# Altium footprint library PCB_Library_1.PcbLib: 41 footprints (part 3 of 3)
Each footprint in its own frame and in the unit in brackets; x right, y up, seen from the top. Pads: shape width x height; smd on the part's side, far side on the other; paste and mask are expansions set on the pad; w line width, h text height; cw(c..) or ccw(c..) is an arc to the next point about the centre after c.
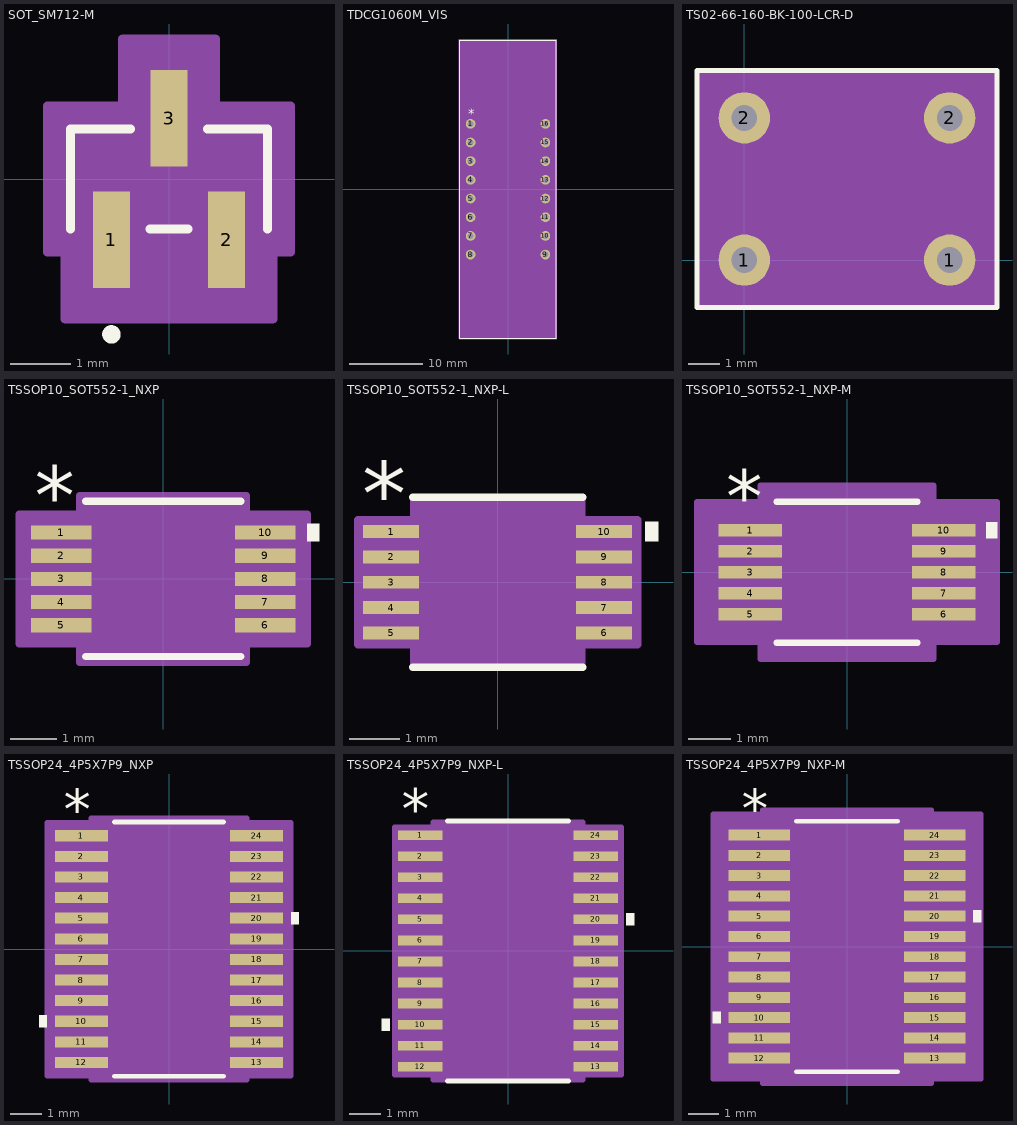
[diagram p2: the footprints below, top view; thin cyan lines are the x and y axes]

## SOT_SM712-M [mil]
pads (3):
  rect 24x63 smd paste+0 mask+0: 1(-37.4,-39.5) 2(37.4,-39.5) 3(0,39.5)
Top Overlay:
  circle w6: c-37.4,-101 r3
  lines w6: -64,-32.5 -64,32.5 -25.1,32.5 ; -12.3,-32.5 12.3,-32.5 ; 25.1,32.5 64,32.5 64,-32.5
Mechanical 13:
  circle w0: c-37.4,-17.5 r3
  lines w1: -59,-27.5 59,-27.5 59,27.5 -59,27.5 -59,-27.5 ; -47.4,-49 -47.4,-27.5 -27.4,-27.5 -27.4,-49 -47.4,-49 ; -10,27.5 10,27.5 10,49 -10,49 -10,27.5 ; 27.4,-49 27.4,-27.5 47.4,-27.5 47.4,-49 27.4,-49
Mechanical 15:
  region: -79,-47.5 -79,47.5 -30,47.5 -30,91 30,91 30,47.5 79,47.5 79,-47.5 67.4,-47.5 67.4,-91 -67.4,-91 -67.4,-47.5
  lines w6: -79,-47.5 -79,47.5 -30,47.5 -30,91 30,91 30,47.5 79,47.5 79,-47.5 67.4,-47.5 67.4,-91 -67.4,-91 -67.4,-47.5 -79,-47.5
3D body "SOT_SM712.step": height 46.1, standoff 0, extent -59.02,-49.02 59.02,49.02

## TDCG1060M_VIS [mil]
pads (16):
  round 52 hole 32 paste-99999 mask+0: 1(-200,350) 2(-200,250) 3(-200,150) 4(-200,50) 5(-200,-50) 6(-200,-150) 7(-200,-250) 8(-200,-350) 9(200,-350) 10(200,-250) 11(200,-150) 12(200,-50) 13(200,50) 14(200,150) 15(200,250) 16(200,350)
Top Overlay:
  lines w6: -257,-796.5 257,-796.5 257,796.5 -257,796.5 -257,-796.5
  text "*" at -212.5,380 h50
Mechanical 13:
  lines w0: -12,791.5 ccw(c0,791.5) 12,791.5
  lines w1: -252,-791.5 252,-791.5 252,791.5 -252,791.5 -252,-791.5 ; -252,-365 -252,-335 -215,-335 -215,-365 -252,-365 ; -252,-265 -252,-235 -215,-235 -215,-265 -252,-265 ; -252,-165 -252,-135 -215,-135 -215,-165 -252,-165 ; -252,-65 -252,-35 -215,-35 -215,-65 -252,-65 ; -252,35 -252,65 -215,65 -215,35 -252,35 ; -252,135 -252,165 -215,165 -215,135 -252,135 ; -252,235 -252,265 -215,265 -215,235 -252,235 ; -252,335 -252,365 -215,365 -215,335 -252,335 ; 215,-365 252,-365 252,-335 215,-335 215,-365 ; 215,-265 252,-265 252,-235 215,-235 215,-265 ; 215,-165 252,-165 252,-135 215,-135 215,-165 ; 215,-65 252,-65 252,-35 215,-35 215,-65 ; 215,35 252,35 252,65 215,65 215,35 ; 215,135 252,135 252,165 215,165 215,135 ; 215,235 252,235 252,265 215,265 215,235 ; 215,335 252,335 252,365 215,365 215,335
  text "*" at -254.5,325 h50
Mechanical 15:
  region: 262,-385 262,385 262,801.5 -262,801.5 -262,385 -262,-385 -262,-801.5 262,-801.5
  lines w6: -262,-801.5 -262,-385 -262,385 -262,801.5 262,801.5 262,385 262,-385 262,-801.5 -262,-801.5
3D body "TDCG1060M_VIS.step": height 281.1, standoff -100, extent -205,-791.5 209.61,791.5

## TS02-66-160-BK-100-LCR-D [mil] "Push button"
pads (4):
  round 64 hole 32 mask+0: 1(0,0) 1(255.91,0) 2(0,177.17) 2(255.91,177.17)
Top Overlay:
  lines w6: -59.06,-59.06 314.96,-59.06 314.96,236.22 -59.06,236.22 -59.06,-59.06
Mechanical 15:
  rectangle: -59.06,-59.06 314.96,236.22

## TSSOP10_SOT552-1_NXP [mil]
pads (10):
  rect 51.5x12 smd paste+0 mask+0: 1(-86.75,39.37) 2(-86.75,19.68) 3(-86.75,0) 4(-86.75,-19.68) 5(-86.75,-39.37) 6(86.75,-39.37) 7(86.75,-19.68) 8(86.75,0) 9(86.75,19.68) 10(86.75,39.37)
Top Overlay:
  region: 122.5,46.87 132.5,46.87 132.5,31.87 122.5,31.87
  lines w6: -66,-66 66,-66 ; -66,66 66,66
  text "*" at -109.25,46.37 h50
Mechanical 13:
  lines w0: -12,61 ccw(c0,61) 12,61
  lines w1: -98.5,-45.37 -98.5,-33.37 -61,-33.37 -61,-45.37 -98.5,-45.37 ; -98.5,-25.68 -98.5,-13.69 -61,-13.69 -61,-25.68 -98.5,-25.68 ; -98.5,-6 -98.5,6 -61,6 -61,-6 -98.5,-6 ; -98.5,13.69 -98.5,25.68 -61,25.68 -61,13.69 -98.5,13.69 ; -98.5,33.37 -98.5,45.37 -61,45.37 -61,33.37 -98.5,33.37 ; -61,-61 61,-61 61,61 -61,61 -61,-61 ; 61,-45.37 61,-33.37 98.5,-33.37 98.5,-45.37 61,-45.37 ; 61,-25.68 61,-13.69 98.5,-13.69 98.5,-25.68 61,-25.68 ; 61,-6 61,6 98.5,6 98.5,-6 61,-6 ; 61,13.69 61,25.68 98.5,25.68 98.5,13.69 61,13.69 ; 61,33.37 61,45.37 98.5,45.37 98.5,33.37 61,33.37
  text "*" at -58.5,8 h50
Mechanical 15:
  region: -71,-55.37 -122.5,-55.37 -122.5,55.37 -71,55.37 -71,71 71,71 71,55.37 122.5,55.37 122.5,-55.37 71,-55.37 71,-71 -71,-71
  lines w6: -122.5,-55.37 -122.5,55.37 -71,55.37 -71,71 71,71 71,55.37 122.5,55.37 122.5,-55.37 71,-55.37 71,-71 -71,-71 -71,-55.37 -122.5,-55.37
3D body "TSSOP10_SOT552-1_NXP.step": height 43.11, standoff 0, extent -98.5,-60.98 98.5,60.98

## TSSOP10_SOT552-1_NXP-L [mil]
pads (10):
  rect 43.5x10 smd paste+0 mask+0: 1(-82.75,39.37) 2(-82.75,19.68) 3(-82.75,0) 4(-82.75,-19.68) 5(-82.75,-39.37) 6(82.75,-39.37) 7(82.75,-19.68) 8(82.75,0) 9(82.75,19.68) 10(82.75,39.37)
Top Overlay:
  region: 114.5,46.87 124.5,46.87 124.5,31.87 114.5,31.87
  lines w6: -66,-66 66,-66 ; -66,66 66,66
  text "*" at -105.25,44.37 h50
Mechanical 13:
  lines w0: -12,61 ccw(c0,61) 12,61
  lines w1: -98.5,-45.37 -61,-45.37 -61,-33.37 -98.5,-33.37 -98.5,-45.37 ; -98.5,-25.68 -61,-25.68 -61,-13.69 -98.5,-13.69 -98.5,-25.68 ; -98.5,-6 -61,-6 -61,6 -98.5,6 -98.5,-6 ; -98.5,13.69 -61,13.69 -61,25.68 -98.5,25.68 -98.5,13.69 ; -98.5,33.37 -61,33.37 -61,45.37 -98.5,45.37 -98.5,33.37 ; -61,-61 -61,61 61,61 61,-61 -61,-61 ; 61,-45.37 98.5,-45.37 98.5,-33.37 61,-33.37 61,-45.37 ; 61,-25.68 98.5,-25.68 98.5,-13.69 61,-13.69 61,-25.68 ; 61,-6 98.5,-6 98.5,6 61,6 61,-6 ; 61,13.69 98.5,13.69 98.5,25.68 61,25.68 61,13.69 ; 61,33.37 98.5,33.37 98.5,45.37 61,45.37 61,33.37
  text "*" at -58.5,8 h50
Mechanical 15:
  region: -65,-48.37 -108.5,-48.37 -108.5,48.37 -65,48.37 -65,65 65,65 65,48.37 108.5,48.37 108.5,-48.37 65,-48.37 65,-65 -65,-65
  lines w6: -108.5,-48.37 -65,-48.37 -65,-65 65,-65 65,-48.37 108.5,-48.37 108.5,48.37 65,48.37 65,65 -65,65 -65,48.37 -108.5,48.37 -108.5,-48.37
3D body "TSSOP10_SOT552-1_NXP.step": height 43.11, standoff 0, extent -98.5,-60.98 98.5,60.98

## TSSOP10_SOT552-1_NXP-M [mil]
pads (10):
  rect 59.5x12 smd paste+0 mask+0: 1(-90.75,39.37) 2(-90.75,19.68) 3(-90.75,0) 4(-90.75,-19.68) 5(-90.75,-39.37) 6(90.75,-39.37) 7(90.75,-19.68) 8(90.75,0) 9(90.75,19.68) 10(90.75,39.37)
Top Overlay:
  region: 130.5,46.87 140.5,46.87 140.5,31.87 130.5,31.87
  lines w6: -66,-66 66,-66 ; -66,66 66,66
  text "*" at -113.25,46.37 h50
Mechanical 13:
  lines w0: -12,61 ccw(c0,61) 12,61
  lines w1: -98.5,-45.37 -98.5,-33.37 -61,-33.37 -61,-45.37 -98.5,-45.37 ; -98.5,-25.68 -98.5,-13.69 -61,-13.69 -61,-25.68 -98.5,-25.68 ; -98.5,-6 -98.5,6 -61,6 -61,-6 -98.5,-6 ; -98.5,13.69 -98.5,25.68 -61,25.68 -61,13.69 -98.5,13.69 ; -98.5,33.37 -98.5,45.37 -61,45.37 -61,33.37 -98.5,33.37 ; -61,-61 61,-61 61,61 -61,61 -61,-61 ; 61,-45.37 61,-33.37 98.5,-33.37 98.5,-45.37 61,-45.37 ; 61,-25.68 61,-13.69 98.5,-13.69 98.5,-25.68 61,-25.68 ; 61,-6 61,6 98.5,6 98.5,-6 61,-6 ; 61,13.69 61,25.68 98.5,25.68 98.5,13.69 61,13.69 ; 61,33.37 61,45.37 98.5,45.37 98.5,33.37 61,33.37
  text "*" at -58.5,8 h50
Mechanical 15:
  region: -81,-65.37 -140.5,-65.37 -140.5,65.37 -81,65.37 -81,81 81,81 81,65.37 140.5,65.37 140.5,-65.37 81,-65.37 81,-81 -81,-81
  lines w6: -140.5,-65.37 -140.5,65.37 -81,65.37 -81,81 81,81 81,65.37 140.5,65.37 140.5,-65.37 81,-65.37 81,-81 -81,-81 -81,-65.37 -140.5,-65.37
3D body "TSSOP10_SOT552-1_NXP.step": height 43.11, standoff 0, extent -98.5,-60.98 98.5,60.98

## TSSOP24_4P5X7P9_NXP [mil]
pads (24):
  rect 67x14 smd paste+0 mask+0: 1(-110.5,143) 2(-110.5,117) 3(-110.5,91) 4(-110.5,65) 5(-110.5,39) 6(-110.5,13) 7(-110.5,-13) 8(-110.5,-39) 9(-110.5,-65) 10(-110.5,-91) 11(-110.5,-117) 12(-110.5,-143) 13(110.5,-143) 14(110.5,-117) 15(110.5,-91) 16(110.5,-65) 17(110.5,-39) 18(110.5,-13) 19(110.5,13) 20(110.5,39) 21(110.5,65) 22(110.5,91) 23(110.5,117) 24(110.5,143)
Top Overlay:
  region: 154,46.5 164,46.5 164,31.5 154,31.5
  region: -154,-83.5 -164,-83.5 -164,-98.5 -154,-98.5
  lines w6: -69.17,-160.5 69.17,-160.5 ; -69.17,160.5 69.17,160.5
  text "*" at -133,152 h50
Mechanical 13:
  lines w0: -12,155.5 ccw(c0,155.5) 12,155.5
  lines w1: -130,-149 -88.5,-149 -88.5,-137 -130,-137 -130,-149 ; -130,-123 -88.5,-123 -88.5,-111 -130,-111 -130,-123 ; -130,-97 -88.5,-97 -88.5,-85 -130,-85 -130,-97 ; -130,-71 -88.5,-71 -88.5,-59 -130,-59 -130,-71 ; -130,-45 -88.5,-45 -88.5,-33 -130,-33 -130,-45 ; -130,-19 -88.5,-19 -88.5,-7 -130,-7 -130,-19 ; -130,7 -88.5,7 -88.5,19 -130,19 -130,7 ; -130,33 -88.5,33 -88.5,45 -130,45 -130,33 ; -130,59 -88.5,59 -88.5,71 -130,71 -130,59 ; -130,85 -88.5,85 -88.5,97 -130,97 -130,85 ; -130,111 -88.5,111 -88.5,123 -130,123 -130,111 ; -130,137 -88.5,137 -88.5,149 -130,149 -130,137 ; -88.5,-155.5 -88.5,155.5 88.5,155.5 88.5,-155.5 -88.5,-155.5 ; 88.5,-149 130,-149 130,-137 88.5,-137 88.5,-149 ; 88.5,-123 130,-123 130,-111 88.5,-111 88.5,-123 ; 88.5,-97 130,-97 130,-85 88.5,-85 88.5,-97 ; 88.5,-71 130,-71 130,-59 88.5,-59 88.5,-71 ; 88.5,-45 130,-45 130,-33 88.5,-33 88.5,-45 ; 88.5,-19 130,-19 130,-7 88.5,-7 88.5,-19 ; 88.5,7 130,7 130,19 88.5,19 88.5,7 ; 88.5,33 130,33 130,45 88.5,45 88.5,33 ; 88.5,59 130,59 130,71 88.5,71 88.5,59 ; 88.5,85 130,85 130,97 88.5,97 88.5,85 ; 88.5,111 130,111 130,123 88.5,123 88.5,111 ; 88.5,137 130,137 130,149 88.5,149 88.5,137
  text "*" at -86,102.5 h50
Mechanical 15:
  region: -98.5,-160 -154,-160 -154,160 -98.5,160 -98.5,165.5 98.5,165.5 98.5,160 154,160 154,-160 98.5,-160 98.5,-165.5 -98.5,-165.5
  lines w6: -154,-160 -98.5,-160 -98.5,-165.5 98.5,-165.5 98.5,-160 154,-160 154,160 98.5,160 98.5,165.5 -98.5,165.5 -98.5,160 -154,160 -154,-160
3D body "TSSOP24_4P5X7P9_NXP.step": height 43.11, standoff 0, extent -130,-155.51 130,155.51

## TSSOP24_4P5X7P9_NXP-L [mil]
pads (24):
  rect 55x12 smd paste+0 mask+0: 1(-108.5,143) 2(-108.5,117) 3(-108.5,91) 4(-108.5,65) 5(-108.5,39) 6(-108.5,13) 7(-108.5,-13) 8(-108.5,-39) 9(-108.5,-65) 10(-108.5,-91) 11(-108.5,-117) 12(-108.5,-143) 13(108.5,-143) 14(108.5,-117) 15(108.5,-91) 16(108.5,-65) 17(108.5,-39) 18(108.5,-13) 19(108.5,13) 20(108.5,39) 21(108.5,65) 22(108.5,91) 23(108.5,117) 24(108.5,143)
Top Overlay:
  region: 146,46.5 156,46.5 156,31.5 146,31.5
  region: -146,-83.5 -156,-83.5 -156,-98.5 -146,-98.5
  lines w6: -74.73,-160.5 74.73,-160.5 ; -74.73,160.5 74.73,160.5
  text "*" at -131,150 h50
Mechanical 13:
  lines w0: -12,155.5 ccw(c0,155.5) 12,155.5
  lines w1: -130,-149 -88.5,-149 -88.5,-137 -130,-137 -130,-149 ; -130,-123 -88.5,-123 -88.5,-111 -130,-111 -130,-123 ; -130,-97 -88.5,-97 -88.5,-85 -130,-85 -130,-97 ; -130,-71 -88.5,-71 -88.5,-59 -130,-59 -130,-71 ; -130,-45 -88.5,-45 -88.5,-33 -130,-33 -130,-45 ; -130,-19 -88.5,-19 -88.5,-7 -130,-7 -130,-19 ; -130,7 -88.5,7 -88.5,19 -130,19 -130,7 ; -130,33 -88.5,33 -88.5,45 -130,45 -130,33 ; -130,59 -88.5,59 -88.5,71 -130,71 -130,59 ; -130,85 -88.5,85 -88.5,97 -130,97 -130,85 ; -130,111 -88.5,111 -88.5,123 -130,123 -130,111 ; -130,137 -88.5,137 -88.5,149 -130,149 -130,137 ; -88.5,-155.5 -88.5,155.5 88.5,155.5 88.5,-155.5 -88.5,-155.5 ; 88.5,-149 130,-149 130,-137 88.5,-137 88.5,-149 ; 88.5,-123 130,-123 130,-111 88.5,-111 88.5,-123 ; 88.5,-97 130,-97 130,-85 88.5,-85 88.5,-97 ; 88.5,-71 130,-71 130,-59 88.5,-59 88.5,-71 ; 88.5,-45 130,-45 130,-33 88.5,-33 88.5,-45 ; 88.5,-19 130,-19 130,-7 88.5,-7 88.5,-19 ; 88.5,7 130,7 130,19 88.5,19 88.5,7 ; 88.5,33 130,33 130,45 88.5,45 88.5,33 ; 88.5,59 130,59 130,71 88.5,71 88.5,59 ; 88.5,85 130,85 130,97 88.5,97 88.5,85 ; 88.5,111 130,111 130,123 88.5,123 88.5,111 ; 88.5,137 130,137 130,149 88.5,149 88.5,137
  text "*" at -86,102.5 h50
Mechanical 15:
  region: -92.5,-153 -140,-153 -140,153 -92.5,153 -92.5,159.5 92.5,159.5 92.5,153 140,153 140,-153 92.5,-153 92.5,-159.5 -92.5,-159.5
  lines w6: -140,-153 -92.5,-153 -92.5,-159.5 92.5,-159.5 92.5,-153 140,-153 140,153 92.5,153 92.5,159.5 -92.5,159.5 -92.5,153 -140,153 -140,-153
3D body "TSSOP24_4P5X7P9_NXP.step": height 43.11, standoff 0, extent -130,-155.51 130,155.51

## TSSOP24_4P5X7P9_NXP-M [mil]
pads (24):
  rect 79x14 smd paste+0 mask+0: 1(-112.5,143) 2(-112.5,117) 3(-112.5,91) 4(-112.5,65) 5(-112.5,39) 6(-112.5,13) 7(-112.5,-13) 8(-112.5,-39) 9(-112.5,-65) 10(-112.5,-91) 11(-112.5,-117) 12(-112.5,-143) 13(112.5,-143) 14(112.5,-117) 15(112.5,-91) 16(112.5,-65) 17(112.5,-39) 18(112.5,-13) 19(112.5,13) 20(112.5,39) 21(112.5,65) 22(112.5,91) 23(112.5,117) 24(112.5,143)
Top Overlay:
  region: 162,46.5 172,46.5 172,31.5 162,31.5
  region: -162,-83.5 -172,-83.5 -172,-98.5 -162,-98.5
  lines w6: -65.17,-160.5 65.17,-160.5 ; -65.17,160.5 65.17,160.5
  text "*" at -135,152 h50
Mechanical 13:
  lines w0: -12,155.5 ccw(c0,155.5) 12,155.5
  lines w1: -130,-149 -88.5,-149 -88.5,-137 -130,-137 -130,-149 ; -130,-123 -88.5,-123 -88.5,-111 -130,-111 -130,-123 ; -130,-97 -88.5,-97 -88.5,-85 -130,-85 -130,-97 ; -130,-71 -88.5,-71 -88.5,-59 -130,-59 -130,-71 ; -130,-45 -88.5,-45 -88.5,-33 -130,-33 -130,-45 ; -130,-19 -88.5,-19 -88.5,-7 -130,-7 -130,-19 ; -130,7 -88.5,7 -88.5,19 -130,19 -130,7 ; -130,33 -88.5,33 -88.5,45 -130,45 -130,33 ; -130,59 -88.5,59 -88.5,71 -130,71 -130,59 ; -130,85 -88.5,85 -88.5,97 -130,97 -130,85 ; -130,111 -88.5,111 -88.5,123 -130,123 -130,111 ; -130,137 -88.5,137 -88.5,149 -130,149 -130,137 ; -88.5,-155.5 -88.5,155.5 88.5,155.5 88.5,-155.5 -88.5,-155.5 ; 88.5,-149 130,-149 130,-137 88.5,-137 88.5,-149 ; 88.5,-123 130,-123 130,-111 88.5,-111 88.5,-123 ; 88.5,-97 130,-97 130,-85 88.5,-85 88.5,-97 ; 88.5,-71 130,-71 130,-59 88.5,-59 88.5,-71 ; 88.5,-45 130,-45 130,-33 88.5,-33 88.5,-45 ; 88.5,-19 130,-19 130,-7 88.5,-7 88.5,-19 ; 88.5,7 130,7 130,19 88.5,19 88.5,7 ; 88.5,33 130,33 130,45 88.5,45 88.5,33 ; 88.5,59 130,59 130,71 88.5,71 88.5,59 ; 88.5,85 130,85 130,97 88.5,97 88.5,85 ; 88.5,111 130,111 130,123 88.5,123 88.5,111 ; 88.5,137 130,137 130,149 88.5,149 88.5,137
  text "*" at -86,102.5 h50
Mechanical 15:
  region: -108.5,-170 -172,-170 -172,170 -108.5,170 -108.5,175.5 108.5,175.5 108.5,170 172,170 172,-170 108.5,-170 108.5,-175.5 -108.5,-175.5
  lines w6: -172,-170 -108.5,-170 -108.5,-175.5 108.5,-175.5 108.5,-170 172,-170 172,170 108.5,170 108.5,175.5 -108.5,175.5 -108.5,170 -172,170 -172,-170
3D body "TSSOP24_4P5X7P9_NXP.step": height 43.11, standoff 0, extent -130,-155.51 130,155.51